# EAGLE library part AS-ITM-00302 (library tinycircuits)
IC REG BUCK ADJ 1.2A
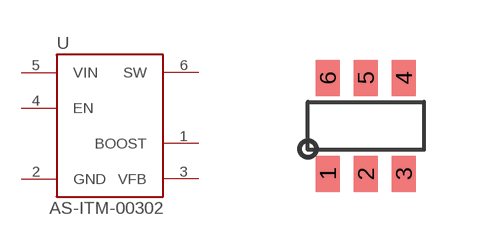
[diagram p119: symbol with the pads of SOT-23-6; footprint SOT-23-6]

Designator prefix U

## AS-ITM-00302 (PARTNO: AS-ITM-00302; VALUE: AOZ1282CI)  [SOT-23-6]
1  BOOST
2  GND
3  VFB
4  EN
5  VIN
6  SW

## Footprint SOT-23-6 (pad centres in mm)
smd 0.6 x 0.9: 1 -0.95,-1.2; 2 0,-1.2; 3 0.95,-1.2; 4 0.95,1.2; 5 0,1.2; 6 -0.95,1.2